# Altium footprint library PcbLib1.PcbLib: 35 footprints (part 3 of 3)
Each footprint in its own frame and in the unit in brackets; x right, y up, seen from the top. Pads: shape width x height; smd on the part's side, far side on the other; paste and mask are expansions set on the pad; w line width, h text height; cw(c..) or ccw(c..) is an arc to the next point about the centre after c.
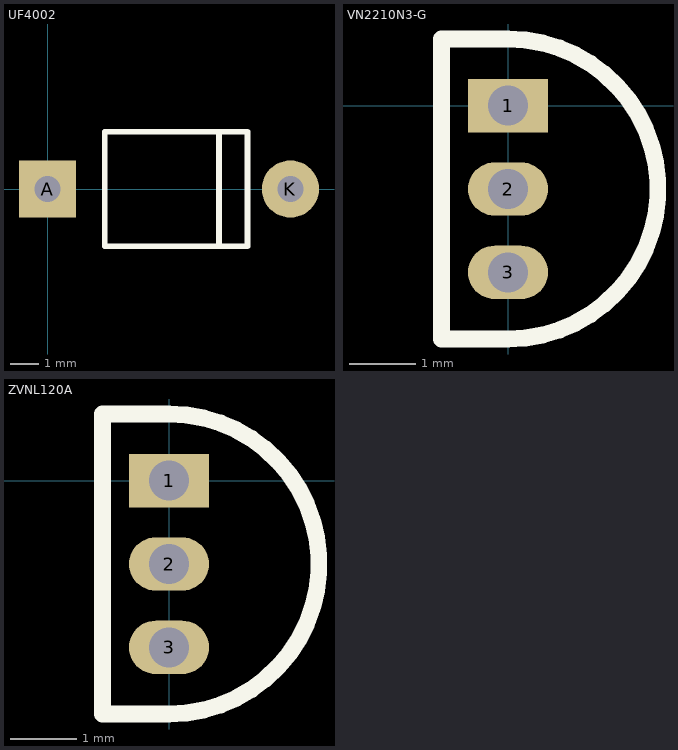
[diagram p2: the footprints below, top view; thin cyan lines are the x and y axes]

## UF4002 [mm]
pads (2):
  rect 2x2 hole 0.9: A(0,0)
  round 2 hole 0.9: K(8.5,0)
Top Overlay:
  lines w0.2: 6,-2 6,2 ; 2,-2 2,0 2,2 7,2 7,-2 2,-2

## VN2210N3-G [mm]
pads (3):
  rect 1.2x0.8 hole 0.6: 1(0,0)
  oval 1.2x0.8 hole 0.6: 2(0,-1.25) 3(0,-2.5)
Top Overlay:
  lines w0.254: -1,-3.5 -1,1 0,1 cw(c0,-1.25) 0,-3.5 -1,-3.5

## ZVNL120A [mm]
pads (3):
  rect 1.2x0.8 hole 0.6: 1(0,0)
  oval 1.2x0.8 hole 0.6: 2(0,-1.25) 3(0,-2.5)
Top Overlay:
  lines w0.254: -1,-3.5 -1,1 0,1 cw(c0,-1.25) 0,-3.5 -1,-3.5